# Altium footprint library WE 742792510 ferrite.PcbLib: 1 footprints
Each footprint in its own frame and in the unit in brackets; x right, y up, seen from the top. Pads: shape width x height; smd on the part's side, far side on the other; paste and mask are expansions set on the pad; w line width, h text height; cw(c..) or ccw(c..) is an arc to the next point about the centre after c.
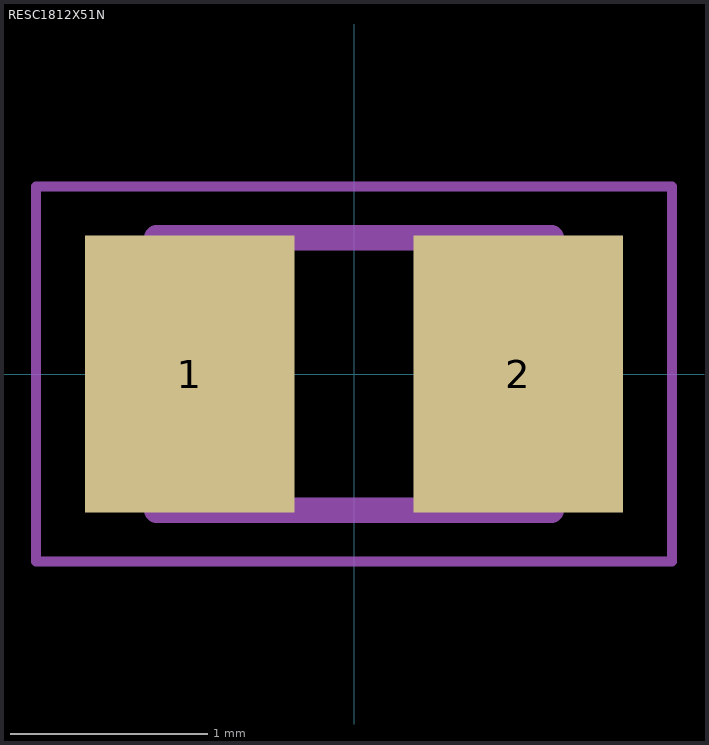
[diagram p0: the footprint, top view; thin cyan lines are the x and y axes]

## RESC1812X51N [mm]
pads (2):
  rect 1.06x1.4 smd: 1(-0.831,0) 2(0.831,0)
Mechanical 13:
  lines w0.127: -1,-0.69 -1,0.69 1,0.69 1,-0.69 -1,-0.69
Mechanical 15:
  lines w0.05: -1.611,-0.95 -1.611,0.95 1.611,0.95 1.611,-0.95 -1.611,-0.95